# Altium footprint library ISO-V3.PcbLib: 63 footprints (part 3 of 4)
Each footprint in its own frame and in the unit in brackets; x right, y up, seen from the top. Pads: shape width x height; smd on the part's side, far side on the other; paste and mask are expansions set on the pad; w line width, h text height; cw(c..) or ccw(c..) is an arc to the next point about the centre after c.
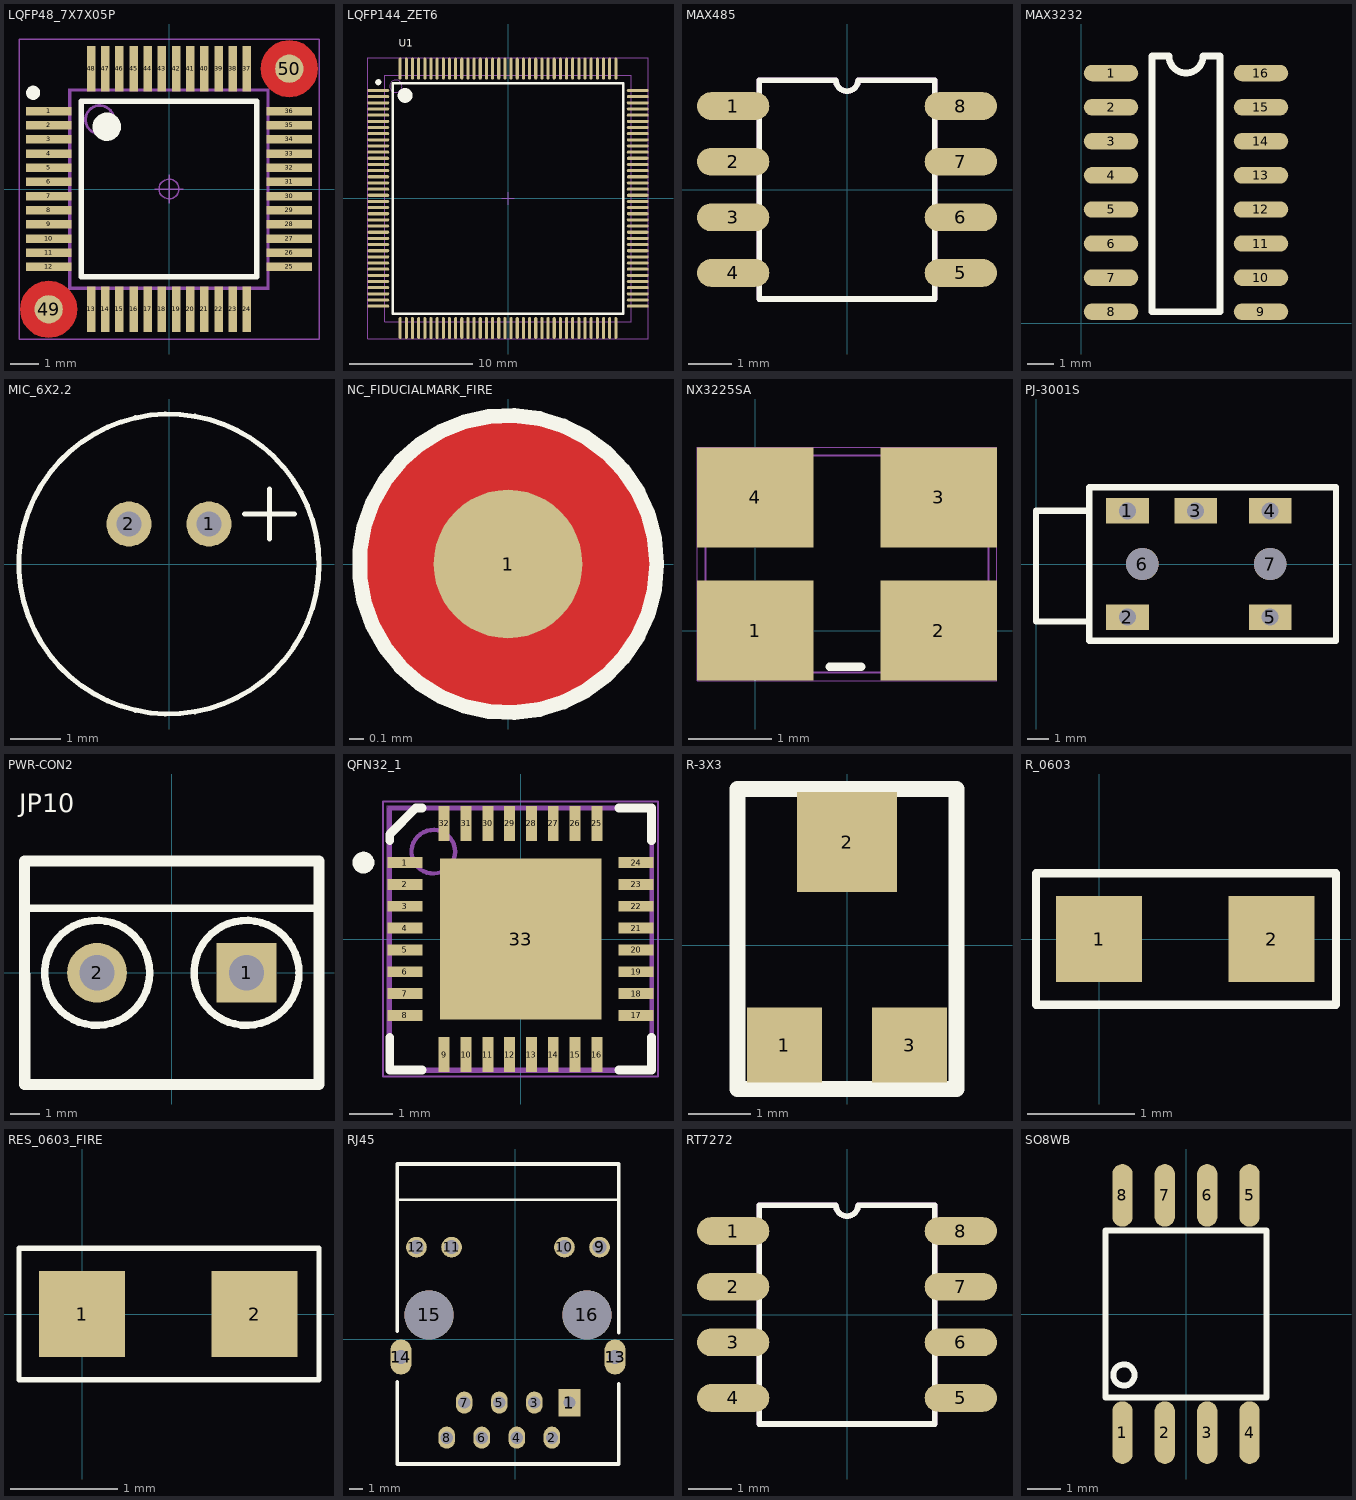
[diagram p2: the footprints below, top view; thin cyan lines are the x and y axes]

## LQFP48_7X7X05P [mm]
height 1.2
pads (50):
  rect 1.6x0.3 smd: 1(-4.25,2.75) 2(-4.25,2.25) 3(-4.25,1.75) 4(-4.25,1.25) 5(-4.25,0.75) 6(-4.25,0.25) 7(-4.25,-0.25) 8(-4.25,-0.75) 9(-4.25,-1.25) 10(-4.25,-1.75) 11(-4.25,-2.25) 12(-4.25,-2.75) 25(4.25,-2.75) 26(4.25,-2.25) 27(4.25,-1.75) 28(4.25,-1.25) 29(4.25,-0.75) 30(4.25,-0.25) 31(4.25,0.25) 32(4.25,0.75) 33(4.25,1.25) 34(4.25,1.75) 35(4.25,2.25) 36(4.25,2.75)
  rect 0.3x1.6 smd: 13(-2.75,-4.25) 14(-2.25,-4.25) 15(-1.75,-4.25) 16(-1.25,-4.25) 17(-0.75,-4.25) 18(-0.25,-4.25) 19(0.25,-4.25) 20(0.75,-4.25) 21(1.25,-4.25) 22(1.75,-4.25) 23(2.25,-4.25) 24(2.75,-4.25) 37(2.75,4.25) 38(2.25,4.25) 39(1.75,4.25) 40(1.25,4.25) 41(0.75,4.25) 42(0.25,4.25) 43(-0.25,4.25) 44(-0.75,4.25) 45(-1.25,4.25) 46(-1.75,4.25) 47(-2.25,4.25) 48(-2.75,4.25)
  round 1 smd mask+0.5: 49(-4.25,-4.25) 50(4.25,4.25)
Top Layer:
  pour cut-out: 5.259,4.25 5.224,4.511 5.123,4.754 4.963,4.963 4.754,5.123 4.511,5.224 4.25,5.259 3.989,5.224 3.746,5.123 3.537,4.963 3.377,4.754 3.276,4.511 3.241,4.25 3.276,3.989 3.377,3.746 3.537,3.537 3.746,3.377 3.989,3.276 4.25,3.241 4.511,3.276 4.754,3.377 4.963,3.537 5.123,3.746 5.224,3.989
  pour cut-out: -3.241,-4.25 -3.276,-3.989 -3.377,-3.746 -3.537,-3.537 -3.746,-3.377 -3.989,-3.276 -4.25,-3.241 -4.511,-3.276 -4.754,-3.377 -4.963,-3.537 -5.123,-3.746 -5.224,-3.989 -5.259,-4.25 -5.224,-4.511 -5.123,-4.754 -4.963,-4.963 -4.754,-5.123 -4.511,-5.224 -4.25,-5.259 -3.989,-5.224 -3.746,-5.123 -3.537,-4.963 -3.377,-4.754 -3.276,-4.511
Top Overlay:
  circle w0.25: c-4.8,3.4 r0.125
  circle w0.5: c-2.2,2.2 r0.25
  lines w0.2: -3.1,-3.1 3.1,-3.1 3.1,3.1 -3.1,3.1 -3.1,-3.1
Mechanical 1:
  circle w0.1: c-2.45,2.45 r0.5
  lines w0.1: -3.5,-3.5 3.5,-3.5 3.5,3.5 -3.5,3.5 -3.5,-3.5
Mechanical 16:
  circle w0.05: c0,0 r0.35
  lines w0.001: -3.55,-3.55 3.55,-3.55 3.55,3.55 -3.55,3.55 -3.55,-3.55
  lines w0.05: -0.5,0 0.5,0 ; 0,-0.5 0,0.5 ; -5.3,-5.3 5.3,-5.3 5.3,5.3 -5.3,5.3 -5.3,-5.3

## LQFP144_ZET6 [mm]
height 1.6
pads (144):
  oval 1.778x0.25 smd: 1(-10.525,8.75) 2(-10.525,8.25) 3(-10.525,7.75) 4(-10.525,7.25) 5(-10.525,6.75) 6(-10.525,6.25) 7(-10.525,5.75) 8(-10.525,5.25) 9(-10.525,4.75) 10(-10.525,4.25) 11(-10.525,3.75) 12(-10.525,3.25) 13(-10.525,2.75) 14(-10.525,2.25) 15(-10.525,1.75) 16(-10.525,1.25) 17(-10.525,0.75) 18(-10.525,0.25) 19(-10.525,-0.25) 20(-10.525,-0.75) 21(-10.525,-1.25) 22(-10.525,-1.75) 23(-10.525,-2.25) 24(-10.525,-2.75) 25(-10.525,-3.25) 26(-10.525,-3.75) 27(-10.525,-4.25) 28(-10.525,-4.75) 29(-10.525,-5.25) 30(-10.525,-5.75) 31(-10.525,-6.25) 32(-10.525,-6.75) 33(-10.525,-7.25) 34(-10.525,-7.75) 35(-10.525,-8.25) 36(-10.525,-8.75) 73(10.525,-8.75) 74(10.525,-8.25) 75(10.525,-7.75) 76(10.525,-7.25) 77(10.525,-6.75) 78(10.525,-6.25) 79(10.525,-5.75) 80(10.525,-5.25) 81(10.525,-4.75) 82(10.525,-4.25) 83(10.525,-3.75) 84(10.525,-3.25) 85(10.525,-2.75) 86(10.525,-2.25) 87(10.525,-1.75) 88(10.525,-1.25) 89(10.525,-0.75) 90(10.525,-0.25) 91(10.525,0.25) 92(10.525,0.75) 93(10.525,1.25) 94(10.525,1.75) 95(10.525,2.25) 96(10.525,2.75) 97(10.525,3.25) 98(10.525,3.75) 99(10.525,4.25) 100(10.525,4.75) 101(10.525,5.25) 102(10.525,5.75) 103(10.525,6.25) 104(10.525,6.75) 105(10.525,7.25) 106(10.525,7.75) 107(10.525,8.25) 108(10.525,8.75)
  oval 0.25x1.778 smd: 37(-8.75,-10.525) 38(-8.25,-10.525) 39(-7.75,-10.525) 40(-7.25,-10.525) 41(-6.75,-10.525) 42(-6.25,-10.525) 43(-5.75,-10.525) 44(-5.25,-10.525) 45(-4.75,-10.525) 46(-4.25,-10.525) 47(-3.75,-10.525) 48(-3.25,-10.525) 49(-2.75,-10.525) 50(-2.25,-10.525) 51(-1.75,-10.525) 52(-1.25,-10.525) 53(-0.75,-10.525) 54(-0.25,-10.525) 55(0.25,-10.525) 56(0.75,-10.525) 57(1.25,-10.525) 58(1.75,-10.525) 59(2.25,-10.525) 60(2.75,-10.525) 61(3.25,-10.525) 62(3.75,-10.525) 63(4.25,-10.525) 64(4.75,-10.525) 65(5.25,-10.525) 66(5.75,-10.525) 67(6.25,-10.525) 68(6.75,-10.525) 69(7.25,-10.525) 70(7.75,-10.525) 71(8.25,-10.525) 72(8.75,-10.525) 109(8.75,10.525) 110(8.25,10.525) 111(7.75,10.525) 112(7.25,10.525) 113(6.75,10.525) 114(6.25,10.525) 115(5.75,10.525) 116(5.25,10.525) 117(4.75,10.525) 118(4.25,10.525) 119(3.75,10.525) 120(3.25,10.525) 121(2.75,10.525) 122(2.25,10.525) 123(1.75,10.525) 124(1.25,10.525) 125(0.75,10.525) 126(0.25,10.525) 127(-0.25,10.525) 128(-0.75,10.525) 129(-1.25,10.525) 130(-1.75,10.525) 131(-2.25,10.525) 132(-2.75,10.525) 133(-3.25,10.525) 134(-3.75,10.525) 135(-4.25,10.525) 136(-4.75,10.525) 137(-5.25,10.525) 138(-5.75,10.525) 139(-6.25,10.525) 140(-6.75,10.525) 141(-7.25,10.525) 142(-7.75,10.525) 143(-8.25,10.525) 144(-8.75,10.525)
Top Overlay:
  circle w0.6: c-8.35,8.35 r0.3
  circle w0.25: c-10.525,9.425 r0.125
  lines w0.2: -9.35,-9.35 9.35,-9.35 9.35,9.35 -9.35,9.35 -9.35,-9.35
  text "U1" at -8.878,12.303 h0.63
Mechanical 16:
  circle w0.1: c-9.1,9.1 r0.5
  lines w0.1: -0.5,0 0.5,0 ; 0,-0.5 0,0.5 ; -11.4,-11.4 11.4,-11.4 11.4,11.4 -11.4,11.4 -11.4,-11.4 ; -10,-10 10,-10 10,10 -10,10 -10,-10

## MAX485 [mm]
pads (8):
  oval 1.651x0.635 smd: 1(-2.6,1.905) 2(-2.6,0.635) 3(-2.6,-0.635) 4(-2.6,-1.905) 5(2.6,-1.905) 6(2.6,-0.635) 7(2.6,0.635) 8(2.6,1.905)
Top Overlay:
  lines w0.127: -2,-2.5 -2,2.5 -0.254,2.5 ccw(c0,2.5) 0.254,2.5 2,2.5 2,-2.5 -2,-2.5
Mechanical 1:
  lines w0.127: -2,-2.5 -2,2.5 -0.254,2.5 ccw(c0,2.5) 0.254,2.5 2,2.5 2,-2.5 -2,-2.5

## MAX3232 [mil]
pads (16):
  oval 80x24 smd: 1(44,367) 2(44,317) 3(44,267) 4(44,217) 5(44,167) 6(44,117) 7(44,67) 8(44,17) 9(264,17) 10(264,67) 11(264,117) 12(264,167) 13(264,217) 14(264,267) 15(264,317) 16(264,367)
Top Overlay:
  lines w10: 104,17 204,17 204,392 179,392 cw(c154,392) 129,392 104,392 104,17

## MIC_6X2.2 [mm]
pads (2):
  round 0.9 hole 0.5: 1(0.8,0.8) 2(-0.8,0.8)
Top Overlay:
  circle w0.102: c0,0 r3
  lines w0.102: 1.506,0.997 2.506,0.997 ; 2.006,0.497 2.006,1.497

## NC_FIDUCIALMARK_FIRE [mm]
pads (1):
  round 1 smd: 1(0,0)
Top Layer:
  pour cut-out: 1.009,0 0.974,0.261 0.873,0.504 0.713,0.713 0.504,0.873 0.261,0.974 0,1.009 -0.261,0.974 -0.504,0.873 -0.713,0.713 -0.873,0.504 -0.974,0.261 -1.009,0 -0.974,-0.261 -0.873,-0.504 -0.713,-0.713 -0.504,-0.873 -0.261,-0.974 0,-1.009 0.261,-0.974 0.504,-0.873 0.713,-0.713 0.873,-0.504 0.974,-0.261
Top Overlay:
  circle w0.1: c0,0 r1
Top Solder:
  region: 1.009,0 0.974,0.261 0.873,0.504 0.713,0.713 0.504,0.873 0.261,0.974 0,1.009 -0.261,0.974 -0.504,0.873 -0.713,0.713 -0.873,0.504 -0.974,0.261 -1.009,0 -0.974,-0.261 -0.873,-0.504 -0.713,-0.713 -0.504,-0.873 -0.261,-0.974 0,-1.009 0.261,-0.974 0.504,-0.873 0.713,-0.713 0.873,-0.504 0.974,-0.261

## NX3225SA [mm]
pads (4):
  rect 1.4x1.2 smd paste-0.06 mask+0.05: 1(0,0) 2(2.2,0) 3(2.2,1.6) 4(0,1.6)
Top Overlay:
  lines w0.1: 0.889,-0.432 1.27,-0.432
Mechanical 15:
  lines w0.025: -0.6,-0.5 -0.6,2.1 2.8,2.1 2.8,-0.5 -0.6,-0.5
Mechanical 16:
  lines w0.003: -0.7,-0.6 -0.7,2.2 2.9,2.2 2.9,-0.6 -0.7,-0.6

## PJ-3001S [mm]
pads (7):
  rect 2x1.2 hole 0.8: 1(4.3,2.5) 2(4.3,-2.5) 3(7.5,2.5) 4(11,2.5) 5(11,-2.5)
  round 1.524 hole 1.524 unplated: 6(5,0) 7(11,0)
Top Overlay:
  lines w0.3: 0,-2.7 0,2.5 2.5,2.5 ; 0.1,-2.7 2.5,-2.7 ; 2.5,-3.6 14.1,-3.6 14.1,3.6 2.5,3.6 2.5,-3.6

## PWR-CON2 [mil]
pads (2):
  rect 80x80 hole 47.24: 1(100,0)
  round 80 hole 47.24: 2(-100,0)
Top Overlay:
  circle w10: c100,0 r70.21
  circle w10: c-100,0 r70.21
  lines w10: -197,86.61 197,86.61
  lines w15: -197,149.61 197,149.61 197,-149.61 -196.85,-149.61 -197,149.61
  text "JP10" at -204.5,215.11 h25

## QFN32_1 [mm]
height 0.8
pads (33):
  rect 0.8x0.25 smd: 1(-2.65,1.75) 2(-2.65,1.25) 3(-2.65,0.75) 4(-2.65,0.25) 5(-2.65,-0.25) 6(-2.65,-0.75) 7(-2.65,-1.25) 8(-2.65,-1.75) 17(2.65,-1.75) 18(2.65,-1.25) 19(2.65,-0.75) 20(2.65,-0.25) 21(2.65,0.25) 22(2.65,0.75) 23(2.65,1.25) 24(2.65,1.75)
  rect 0.25x0.8 smd: 9(-1.75,-2.65) 10(-1.25,-2.65) 11(-0.75,-2.65) 12(-0.25,-2.65) 13(0.25,-2.65) 14(0.75,-2.65) 15(1.25,-2.65) 16(1.75,-2.65) 25(1.75,2.65) 26(1.25,2.65) 27(0.75,2.65) 28(0.25,2.65) 29(-0.25,2.65) 30(-0.75,2.65) 31(-1.25,2.65) 32(-1.75,2.65)
  rect 3.7x3.7 smd paste-0.49: 33(0,0)
Top Overlay:
  circle w0.25: c-3.6,1.75 r0.125
  lines w0.2: -3,-2.25 -3,-3 -2.25,-3 ; -3,2.25 -3,2.4 -2.4,3 -2.25,3 ; 2.25,-3 3,-3 3,-2.25 ; 2.25,3 3,3 3,2.25
Mechanical 1:
  circle w0.1: c-2,2 r0.5
  lines w0.1: -3,-3 3,-3 3,3 -3,3 -3,-3
Mechanical 16:
  circle w0.05: c0,0 r0.35
  lines w0.001: -3.05,-3.05 3.05,-3.05 3.05,3.05 -3.05,3.05 -3.05,-3.05
  lines w0.05: -0.5,0 0.5,0 ; 0,-0.5 0,0.5 ; -3.15,-3.15 3.15,-3.15 3.15,3.15 -3.15,3.15 -3.15,-3.15

## R-3X3 [mm]
pads (3):
  rrect0% 1.2x1.2 smd: 1(-1,-1.6) 3(1,-1.6)
  rrect0% 1.6x1.6 smd: 2(0,1.65)
Top Overlay:
  lines w0.254: -1.75,2.5 -1.75,-2.3 1.75,-2.3 1.75,2.5 -1.7,2.5

## R_0603 [mm]
pads (2):
  rect 0.8x0.8 smd: 1(0,0) 2(1.6,0)
Top Overlay:
  lines w0.076: -0.584,-0.61 2.197,-0.61 2.197,0.61 -0.584,0.61 -0.584,-0.61

## RES_0603_FIRE [mm]
pads (2):
  rect 0.8x0.8 smd: 1(0,0) 2(1.6,0)
Top Overlay:
  lines w0.051: -0.584,-0.61 2.197,-0.61 2.197,0.61 -0.584,0.61 -0.584,-0.61

## RJ45 [mm]
pads (16):
  rect 1.6x2 hole 0.89: 1(3.942,-4.572)
  oval 1.2x1.6 hole 0.89: 2(2.672,-7.112) 3(1.402,-4.572) 4(0.132,-7.112) 5(-1.138,-4.572) 6(-2.408,-7.112) 7(-3.678,-4.572) 8(-4.948,-7.112)
  round 1.5 hole 1.02: 9(6.117,6.678) 10(3.577,6.678) 11(-4.593,6.678) 12(-7.133,6.678)
  oval 1.524x2.54 hole 1.016: 13(7.242,-1.272) 14(-8.258,-1.272)
  round 3.556 hole 3.556: 15(-6.223,1.778) 16(5.207,1.778)
Top Overlay:
  lines w0.2: -8.508,10.103 7.492,10.103
  lines w0.254: -8.508,-3.069 -8.508,-9.017 7.492,-9.017 7.492,-3.2 ; -8.508,0.575 -8.508,12.698 7.492,12.698 7.492,0.481

## RT7272 [mm]
pads (8):
  oval 1.651x0.635 smd: 1(-2.6,1.905) 2(-2.6,0.635) 3(-2.6,-0.635) 4(-2.6,-1.905) 5(2.6,-1.905) 6(2.6,-0.635) 7(2.6,0.635) 8(2.6,1.905)
Top Overlay:
  lines w0.127: -2,-2.5 -2,2.5 -0.254,2.5 ccw(c0,2.5) 0.254,2.5 2,2.5 2,-2.5 -2,-2.5
Mechanical 1:
  lines w0.127: -2,-2.5 -2,2.5 -0.254,2.5 ccw(c0,2.5) 0.254,2.5 2,2.5 2,-2.5 -2,-2.5

## SO8WB [mil]
pads (8):
  oval 24x74 smd: 1(-75,-140) 2(-25,-140) 3(25,-140) 4(75,-140) 5(75,140) 6(25,140) 7(-25,140) 8(-75,140)
Top Overlay:
  circle w7: c-73.3,-71.97 r12.5
  lines w7: -95,-98.43 95,-98.43 95,98.43 -95,98.43 -95,-98.43